# Altium integrated library MLX90614ESF-BAA-000-TU.IntLib: 1 symbol
Pins are listed as number, name and electrical type; pins without a type are passive.

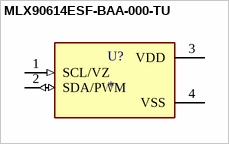
[diagram p0: symbol MLX90614ESF-BAA-000-TU]

## MLX90614ESF-BAA-000-TU
designator U?
single pixel, 3V, standard acc., 90deg FOV; MF: Melexis; MP: MLX90614ESF-BAA-000-TU; SnapEDA_Link: https://www.snapeda.com/parts/MLX90614ESF-BAA-000-TU/Melexis/view-part/?ref=snap; Package: TO-39-4 Melexis; Value: *; Check_prices: https://www.snapeda.com/parts/MLX90614ESF-BAA-000-TU/Melexis/view-part/?ref=eda
footprint TO254P942H425-4
pins: 1 SCL/VZ (in), 2 SDA/PWM (io), 3 VDD (power), 4 VSS (power)